# Altium schematic symbol library Memory.SchLib: 17 symbols
Pins are listed as number, name and electrical type; pins without a type are passive.

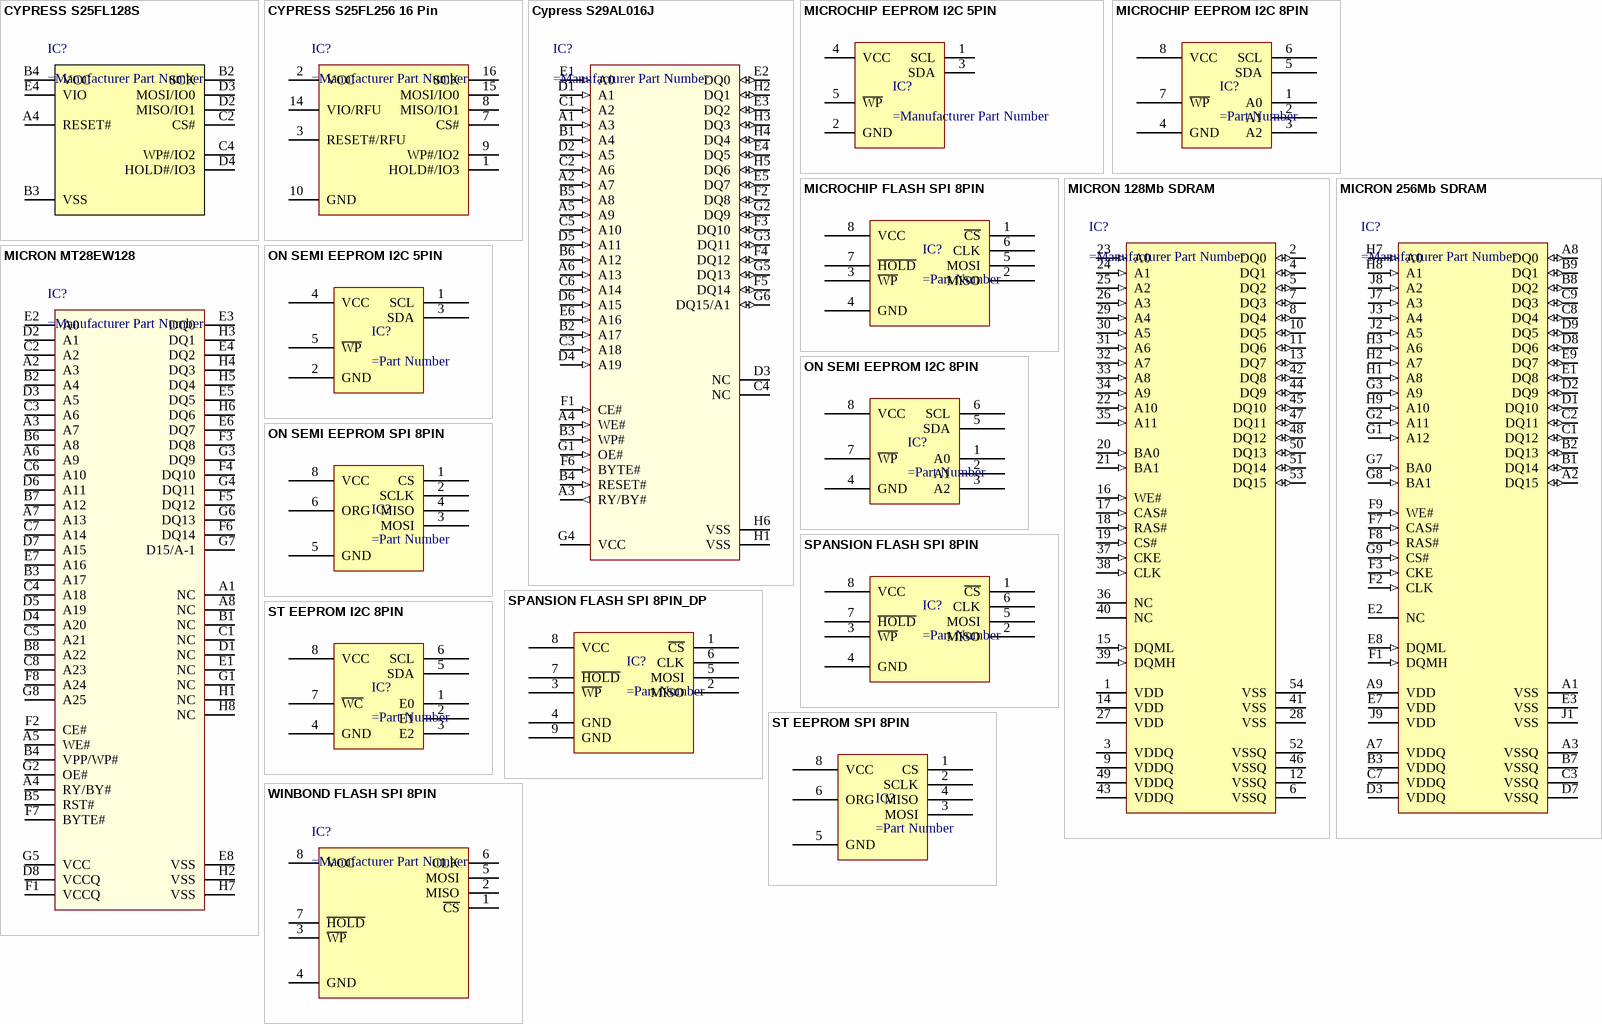
[diagram p0: symbols CYPRESS S25FL128S to WINBOND FLASH SPI 8PIN]

## CYPRESS S25FL128S
designator IC?
128 Mb (16 MB)/256 Mb (32 MB)  3.0V SPI Flash Memory; Manufacturer_Name: Cypress Semiconductor; Manufacturer_Part_Number: S25FL128SAGBHI300; Datasheet Link: https://www.cypress.com/file/448601/download; Height: 1.2mm; Mouser Part Number: 797-25FL128SAGBHI300; Mouser Price/Stock: https://www.mouser.com/Search/Refine.aspx?Keyword=797-25FL128SAGBHI300; Arrow Part Number: S25FL128SAGBHI300; Arrow Price/Stock: https://www.arrow.com/en/products/s25fl128sagbhi300/cypress-semiconductor
footprint CYPRESS BGA24 5x5 6x8mm (FAB024 — 24-Ball BGA (8 x 6 mm) Package)
pins: A4 RESET#, B2 SCK, B3 VSS, B4 VCC, C2 CS#, C4 WP#/IO2, D2 MISO/IO1, D3 MOSI/IO0, D4 HOLD#/IO3, E4 VIO

## CYPRESS S25FL256 16 Pin
designator IC?
256 Mb (32 MB) FL-S Flash
footprint CYRPRESS SOIC-16
pins: 1 HOLD#/IO3, 2 VCC, 3 RESET#/RFU, 7 CS#, 8 MISO/IO1, 9 WP#/IO2, 10 GND, 14 VIO/RFU, 15 MOSI/IO0, 16 SCK

## Cypress S29AL016J
designator IC?
16-Mbit (2M × 8-Bit/1M × 16-Bit), 3 V,  Boot Sector Flash
footprint Cypress VFBGA-48 8.15x6.15 (VFBGA-48-Ball Fine-Pitch Ball Grid Array (BGA) 8.15 mm x 6.15 mm)
pins: A1 A3 (in), A2 A7 (in), A3 RY/BY# (out), A4 WE# (in), A5 A9 (in), A6 A13 (in), B1 A4 (in), B2 A17 (in), B3 WP# (in), B4 RESET# (in), B5 A8 (in), B6 A12 (in), C1 A2 (in), C2 A6 (in), C3 A18 (in), C4 NC, C5 A10 (in), C6 A14 (in), D1 A1 (in), D2 A5 (in), D3 NC, D4 A19 (in), D5 A11 (in), D6 A15 (in), E1 A0 (in), E2 DQ0 (io), E3 DQ2 (io), E4 DQ5 (io), E5 DQ7 (io), E6 A16 (in), F1 CE# (in), F2 DQ8 (io), F3 DQ10 (io), F4 DQ12 (io), F5 DQ14 (io), F6 BYTE# (in), G1 OE# (in), G2 DQ9 (io), G3 DQ11 (io), G4 VCC (power), G5 DQ13 (io), G6 DQ15/A1 (io), H1 VSS (power), H2 DQ1 (io), H3 DQ3 (io), H4 DQ4 (io), H5 DQ6 (io), H6 VSS (power)

## MICROCHIP EEPROM I2C 5PIN
designator IC?
footprint MICROCHIP SOT-23-5 OT (SOT23, 5-Leads, Body 2.90x2.70mm, Pitch 0.95mm, IPC Medium Density)
pins: 1 SCL, 2 GND, 3 SDA, 4 VCC, 5 ~{WP}

## MICROCHIP EEPROM I2C 8PIN
designator IC?
pins: 1 A0, 2 A1, 3 A2, 4 GND, 5 SDA, 6 SCL, 7 ~{WP}, 8 VCC

## MICROCHIP FLASH SPI 8PIN
designator IC?
pins: 1 ~{CS}, 2 MISO, 3 ~{WP}, 4 GND, 5 MOSI, 6 CLK, 7 ~{HOLD}, 8 VCC

## MICRON 128Mb SDRAM
designator IC?
MT48LC32M4A2 – 8 Meg x 4 x 4 Banks / MT48LC16M8A2 – 4 Meg x 8 x 4 Banks / MT48LC8M16A2 – 2 Meg x 16 x 4 Banks
footprint MICRON TSOP-54N
pins: 1 VDD (power), 2 DQ0 (io), 3 VDDQ (power), 4 DQ1 (io), 5 DQ2 (io), 6 VSSQ (power), 7 DQ3 (io), 8 DQ4 (io), 9 VDDQ (power), 10 DQ5 (io), 11 DQ6 (io), 12 VSSQ (power), 13 DQ7 (io), 14 VDD (power), 15 DQML (in), 16 WE# (in), 17 CAS# (in), 18 RAS# (in), 19 CS# (in), 20 BA0 (in), 21 BA1 (in), 22 A10 (in), 23 A0 (in), 24 A1 (in), 25 A2 (in), 26 A3 (in), 27 VDD (power), 28 VSS (power), 29 A4 (in), 30 A5 (in), 31 A6 (in), 32 A7 (in), 33 A8 (in), 34 A9 (in), 35 A11 (in), 36 NC, 37 CKE (in), 38 CLK (in), 39 DQMH (in), 40 NC, 41 VSS (power), 42 DQ8 (io), 43 VDDQ (power), 44 DQ9 (io), 45 DQ10 (io), 46 VSSQ (power), 47 DQ11 (io), 48 DQ12 (io), 49 VDDQ (power), 50 DQ13 (io), 51 DQ14 (io), 52 VSSQ (power), 53 DQ15 (io), 54 VSS (power)

## MICRON 256Mb SDRAM
designator IC?
MT48LC64M4A2 – 16 Meg x 4 x 4 banks / MT48LC32M8A2 – 8 Meg x 8 x 4 banks / MT48LC16M16A2 – 4 Meg x 16 x 4 banks
footprint MICRON VFBGA-54 8X14MM (54-Ball VFBGA "BG/FG" (8mm x 14mm) (x16))
pins: A1 VSS (power), A2 DQ15 (io), A3 VSSQ (power), A7 VDDQ (power), A8 DQ0 (io), A9 VDD (power), B1 DQ14 (io), B2 DQ13 (io), B3 VDDQ (power), B7 VSSQ (power), B8 DQ2 (io), B9 DQ1 (io), C1 DQ12 (io), C2 DQ11 (io), C3 VSSQ (power), C7 VDDQ (power), C8 DQ4 (io), C9 DQ3 (io), D1 DQ10 (io), D2 DQ9 (io), D3 VDDQ (power), D7 VSSQ (power), D8 DQ6 (io), D9 DQ5 (io), E1 DQ8 (io), E2 NC, E3 VSS (power), E7 VDD (power), E8 DQML (in), E9 DQ7 (io), F1 DQMH (in), F2 CLK (in), F3 CKE (in), F7 CAS# (in), F8 RAS# (in), F9 WE# (in), G1 A12 (in), G2 A11 (in), G3 A9 (in), G7 BA0 (in), G8 BA1 (in), G9 CS# (in), H1 A8 (in), H2 A7 (in), H3 A6 (in), H7 A0 (in), H8 A1 (in), H9 A10 (in), J1 VSS (power), J2 A5 (in), J3 A4 (in), J7 A3 (in), J8 A2 (in), J9 VDD (power)

## MICRON MT28EW128
designator IC?
Parallel NOR Flash Embedded Memory
footprint MICRON LBGA-64 11X13mm (64-Ball LBGA – 11mm x 13mm (Package Code: PC))
pins: A1 NC, A2 A3, A3 A7, A4 RY/BY#, A5 WE#, A6 A9, A7 A13, A8 NC, B1 NC, B2 A4, B3 A17, B4 VPP/WP#, B5 RST#, B6 A8, B7 A12, B8 A22, C1 NC, C2 A2, C3 A6, C4 A18, C5 A21, C6 A10, C7 A14, C8 A23, D1 NC, D2 A1, D3 A5, D4 A20, D5 A19, D6 A11, D7 A15, D8 VCCQ, E1 NC, E2 A0, E3 DQ0, E4 DQ2, E5 DQ5, E6 DQ7, E7 A16, E8 VSS, F1 VCCQ, F2 CE#, F3 DQ8, F4 DQ10, F5 DQ12, F6 DQ14, F7 BYTE#, F8 A24, G1 NC, G2 OE#, G3 DQ9, G4 DQ11, G5 VCC, G6 DQ13, G7 D15/A-1, G8 A25, H1 NC, H2 VSS, H3 DQ1, H4 DQ3, H5 DQ4, H6 DQ6, H7 VSS, H8 NC

## ON SEMI EEPROM I2C 5PIN
designator IC?
pins: 1 SCL, 2 GND, 3 SDA, 4 VCC, 5 ~{WP}

## ON SEMI EEPROM I2C 8PIN
designator IC?
pins: 1 A0, 2 A1, 3 A2, 4 GND, 5 SDA, 6 SCL, 7 ~{WP}, 8 VCC

## ON SEMI EEPROM SPI 8PIN
designator IC?
pins: 1 CS, 2 SCLK, 3 MOSI, 4 MISO, 5 GND, 6 ORG, 8 VCC

## SPANSION FLASH SPI 8PIN
designator IC?
pins: 1 ~{CS}, 2 MISO, 3 ~{WP}, 4 GND, 5 MOSI, 6 CLK, 7 ~{HOLD}, 8 VCC

## SPANSION FLASH SPI 8PIN_DP
designator IC?
pins: 1 ~{CS}, 2 MISO, 3 ~{WP}, 4 GND, 5 MOSI, 6 CLK, 7 ~{HOLD}, 8 VCC, 9 GND

## ST EEPROM I2C 8PIN
designator IC?
pins: 1 E0, 2 E1, 3 E2, 4 GND, 5 SDA, 6 SCL, 7 ~{WC}, 8 VCC

## ST EEPROM SPI 8PIN
designator IC?
pins: 1 CS, 2 SCLK, 3 MOSI, 4 MISO, 5 GND, 6 ORG, 8 VCC

## WINBOND FLASH SPI 8PIN
designator IC?
footprint WINBOND SOIC-8 208MIL WIDE (SOIC, 8-Leads, Body 5.28x5.28mm, Pitch 1.27mm, IPC Medium Density)
footprint WINBOND WSON-8 6x5mm (SON, 8-Leads, Body 5.00x6.00mm, Pitch 1.27mm, Thermal Pad 4.30x3.40mm, IPC Medium Density)
footprint WINBOND WSON-8 8x6mm
pins: 1 ~{CS}, 2 MISO, 3 ~{WP}, 4 GND, 5 MOSI, 6 CLK, 7 ~{HOLD}, 8 VCC